# Altium footprint library corporatecam.PcbLib: 52 footprints (part 1 of 4)
Each footprint in its own frame and in the unit in brackets; x right, y up, seen from the top. Pads: shape width x height; smd on the part's side, far side on the other; paste and mask are expansions set on the pad; w line width, h text height; cw(c..) or ccw(c..) is an arc to the next point about the centre after c.
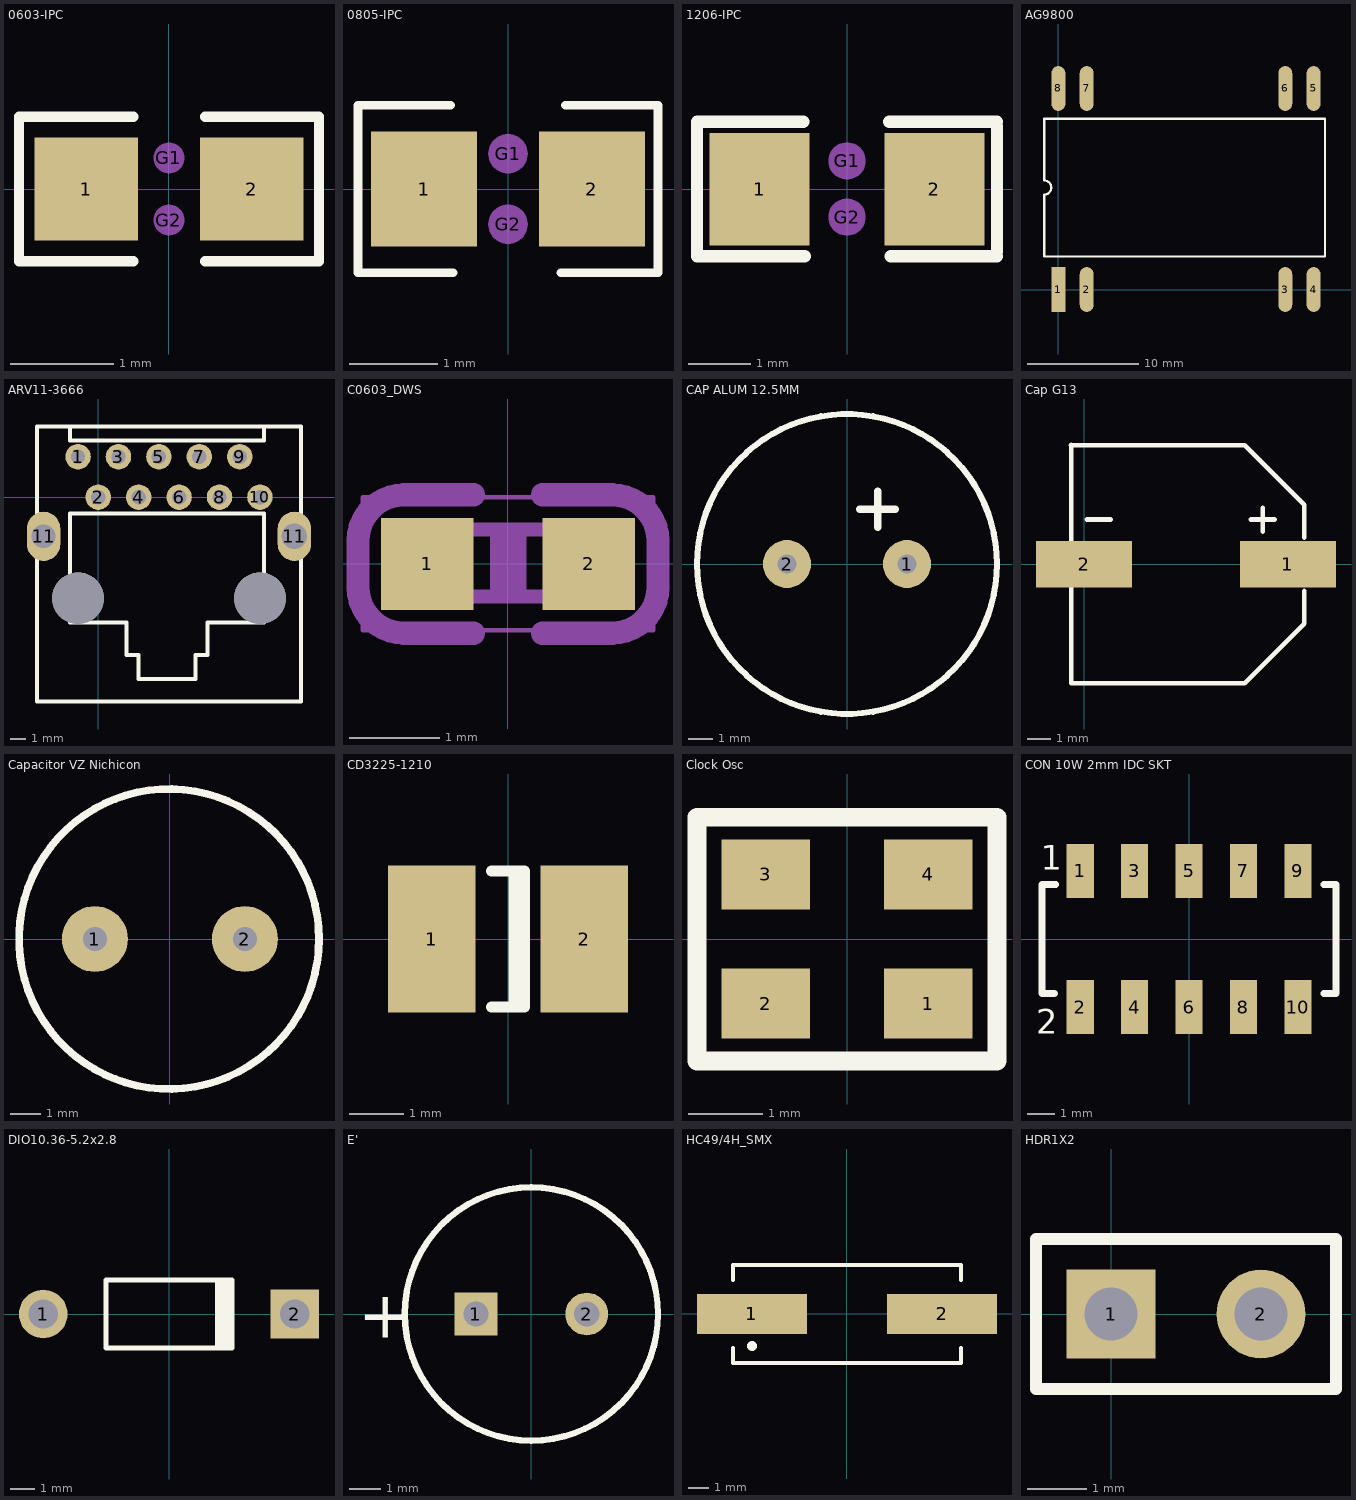
[diagram p0: the footprints below, top view; thin cyan lines are the x and y axes]

## 0603-IPC [mm] "1608"
height 0.6
pads (4):
  rect 1x1 smd paste-0.052: 1(-0.8,0) 2(0.8,0)
  round 0.3 on Mech7: G1(0,0.3) G2(0,-0.3)
Top Overlay:
  lines w0.1: -0.344,-0.7 -1.45,-0.7 -1.45,0.7 -0.344,0.7 ; 0.35,-0.7 1.445,-0.7 ; 0.35,0.7 1.445,0.7 ; 1.45,-0.7 1.45,0.7

## 0805-IPC [mm] "2012"
height 0.65
pads (4):
  rect 1.2x1.3 smd paste-0.066: 1(-0.95,0) 2(0.95,0)
  round 0.45 on Mech7: G1(0,0.4) G2(0,-0.4)
Top Overlay:
  lines w0.1: -0.65,0.95 -1.7,0.95 -1.7,-0.95 -0.625,-0.95 ; 0.6,-0.95 1.7,-0.95 1.7,0.95 0.65,0.95
3D body: height 0.48, standoff 0.02, extent -1,-0.63 1,0.63

## 1206-IPC [mm] "3216"
height 0.71
pads (4):
  rect 1.6x1.8 smd paste-0.09: 1(-1.4,0) 2(1.4,0)
  round 0.6 on Mech7: G1(0,0.45) G2(0,-0.45)
Top Overlay:
  lines w0.2: -0.7,1.075 -2.4,1.075 -2.4,1.05 -2.4,1 -2.4,-1 -2.4,-1.075 -0.675,-1.075 ; 0.675,1.075 2.4,1.075 ; 0.7,-1.075 2.4,-1.075 ; 2.4,-1 2.4,1

## AG9800 [mm]
pads (8):
  rect 1.25x4 smd: 1(0,0)
  oval 1.25x4 smd: 2(2.54,0) 3(20.32,0) 4(22.86,0) 5(22.86,18) 6(20.32,18) 7(2.54,18) 8(0,18)
Top Overlay:
  lines w0.2: -1.27,2.962 -1.27,8.492 ccw(c-1.27,9.127) -1.27,9.762 -1.27,15.292 23.876,15.292 23.876,2.962 -1.27,2.962
3D body: height 0.8, standoff 0, extent -1.285,1.27 23.876,16.916

## ARV11-3666 [mm] "Molex RJ45 HS-Vertical Skt"
pads (14):
  round 1.6 hole 0.9: 1(-1.27,2.54) 2(0,0) 3(1.27,2.54) 4(2.54,0) 5(3.81,2.54) 6(5.08,0) 7(6.35,2.54) 8(7.62,0) 9(8.89,2.54) 10(10.16,0)
  oval 2.1x3.1 hole 1.5: 11(-3.43,-2.46)
  oval 2.1x3.1 hole 1.6: 11(12.32,-2.46)
  round 3.25 hole 3.25 unplated: ""(-1.27,-6.35) ""(10.16,-6.35)
Top Overlay:
  lines w0.2: -3.855,-12.85 4.445,-12.85 -1.27,-12.85 ; -3.855,4.45 4.445,4.45
  lines w0.254: -1.778,4.45 -1.778,3.556 10.414,3.556 10.414,4.45 ; -3.855,-12.85 12.745,-12.85 12.745,4.45 -3.855,4.45 -3.855,-12.85 ; -1.778,-7.874 -1.778,-2.032 -1.778,-1.016 10.414,-1.016 10.414,-7.874 6.858,-7.874 6.858,-9.906 6.096,-9.906 6.096,-11.43 2.54,-11.43 2.54,-9.906 1.778,-9.906 1.778,-7.874 -1.778,-7.874

## C0603_DWS [mil] "C0603_DWS"
pads (2):
  rect 40x40 smd: 1(-35,0) 2(35,0)
Mechanical 2:
Mechanical 4:
Mechanical 6:
  rectangle: -7.87,-15.75 8,16
Mechanical 16:
  rectangle: 17,-17 33,17
  rectangle: -33,-17 -17,17
  lines w6: -17.01,-14.02 18,-14.02 ; -17.01,15 18,15
Mechanical 25:
  lines w10: -15,-30 -45,-30 cw(c-45,-10) -65,-10 -65,10 cw(c-45,10) -45,30 -15,30 ; 15,-30 45,-30 ccw(c45,-10) 65,-10 65,10 ccw(c45,10) 45,30 15,30
Mechanical 27:
  lines w2: -62.99,-28.7 63,-28.7 63,29 -62.99,29 -62.99,-28.7

## CAP ALUM 12.5MM [mm] "CAP Electrolytic 5mm Pitch Dia 12.5"
height 22
pads (2):
  round 2 hole 0.8: 1(2.5,0) 2(-2.5,0)
Top Overlay:
  circle w0.254: c0,0 r6.25
  lines w0.305: 0.525,2.275 2.009,2.275 ; 1.275,1.525 1.275,3.025

## Cap G13 [mm]
pads (2):
  rect 4.1x2 smd paste-0.115: 1(8.7,0) 2(0,0)
Top Overlay:
  lines w0.2: -0.57,5.08 5.08,5.08 ; -0.55,-0.95 -0.55,-5.08 5.08,-5.08 6.858,-5.08 9.398,-2.54 ; -0.55,0.95 -0.55,5.1 ; 0.127,1.905 1.143,1.905 ; 4.826,5.08 6.858,5.08 9.398,2.54 ; 7.112,1.905 8.128,1.905 ; 7.62,1.397 7.62,2.413 ; 9.398,-2.493 9.398,-1.143 ; 9.398,1.143 9.398,2.493

## Capacitor VZ Nichicon [mm]
height 16
pads (2):
  round 2.2 hole 0.8: 1(-2.5,0) 2(2.5,0)
Top Overlay:
  circle w0.254: c-0.03,0 r5

## CD3225-1210 [mm] "Chip Diode; Body 3.2 x 2.5 mm (LxW typ)"
height 1.35
pads (2):
  rect 1.6x2.7 smd: 1(-1.4,0) 2(1.4,0)
Top Overlay:
  lines w0.2: -0.3,-1.25 0.3,-1.25 0.3,1.25 -0.3,1.25 ; 0.11,-1.25 0.11,1.25

## Clock Osc [mm]
pads (4):
  rect 1.2x0.95 smd paste-0.09: 1(1.1,-0.875) 2(-1.1,-0.875) 3(-1.1,0.875) 4(1.1,0.875)
Top Overlay:
  lines w0.254: -2.032,-1.651 -2.032,1.651 2.032,1.651 2.032,-1.651 -2.032,-1.651

## CON 10W 2mm IDC SKT [mm] "2.0mm Socket Strip, Double Row 2207SM-10G-45"
height 4.5
pads (10):
  rect 1x2 smd paste-0.07: 1(-4,2.5) 2(-4,-2.5) 3(-2,2.5) 4(-2,-2.5) 5(0,2.5) 6(0,-2.5) 7(2,2.5) 8(2,-2.5) 9(4,2.5) 10(4,-2.5)
Top Overlay:
  lines w0.254: -4.95,-2 -5.4,-2 -5.4,2 -4.9,2 ; 4.95,-2 5.4,-2 5.4,2 4.95,2
  text "2" at -5.625,-3.475 h0.9
  text "1" at -5.45,2.55 h0.9
3D body: height 4.51, standoff 0.02, extent -5.121,-3.218 5.12,3.218

## DIO10.36-5.2x2.8 [mm] "Diode, Axial; Body 5.2 x 2.7 mm (LxDia. max), Lead Dia. 0.86 mm (max)"
height 2.8
pads (2):
  round 2 hole 1.2: 1(-5.18,0)
  rect 2x2 hole 1.2: 2(5.18,0)
Top Overlay:
  rectangle: 1.9,-1.4 2.7,1.4
  lines w0.2: 2.6,-1.4 -2.6,-1.4 -2.6,1.4 2.6,1.4

## E' [mm] "Capacitor, Electrolytic, Radial; Body 8 x 5 mm (Dia.xH typ); Pin Spacing 3.5 mm (typ)"
height 6
pads (2):
  rect 1.35x1.35 hole 0.8: 1(-1.75,0)
  round 1.35 hole 0.8: 2(1.75,0)
Top Overlay:
  circle w0.2: c0,0 r4
  text "+" at -5.475,-0.75 h1.5

## HC49/4H_SMX [mm] "Quartz Crystal, SM; Body 13.4 (inc. leads) x 4.9 mm (LxW max)"
height 4.3
pads (2):
  rect 5.5x2 smd: 1(-4.75,0) 2(4.75,0)
Top Overlay:
  circle w0.25: c-4.75,-1.6 r0.125
  lines w0.2: -5.7,-1.7 -5.7,-2.45 5.7,-2.45 5.7,-1.7 ; -5.7,1.7 -5.7,2.45 5.7,2.45 5.7,1.7

## HDR1X2 [mm]
pads (2):
  rect 1.5x1.5 hole 0.9: 1(0,0)
  round 1.5 hole 0.9: 2(2.54,0)
Top Overlay:
  lines w0.2: -1.27,-1.27 3.81,-1.27 3.81,1.27 -1.27,1.27 -1.27,-1.27